# EAGLE library part JOYSTICK_ANALOG (library Nick's Personal Part)
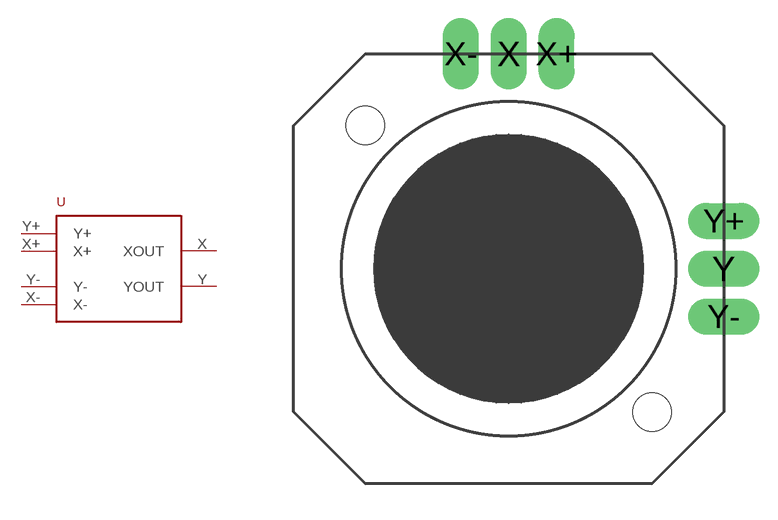
[diagram p1: symbol with the pads of JOYSTICK_ANALOG; footprint JOYSTICK_ANALOG]

Designator prefix -

## JOYSTICK_ANALOG  [JOYSTICK_ANALOG]
X  XOUT
X+  X+
X-  X-
Y  YOUT
Y+  Y+
Y-  Y-

## Footprint JOYSTICK_ANALOG (pad centres in mm)
drill 0.9 pad 1.5 long: X 0,9; X+ 2,9; X- -2,9; Y 9,0; Y+ 9,2; Y- 9,-2
hole 1.6 at -6,6
hole 1.6 at 6,-6